# Altium schematic symbol library полётный контроллер 1.SchLib: 28 symbols
Pins are listed as number, name and electrical type; pins without a type are passive.

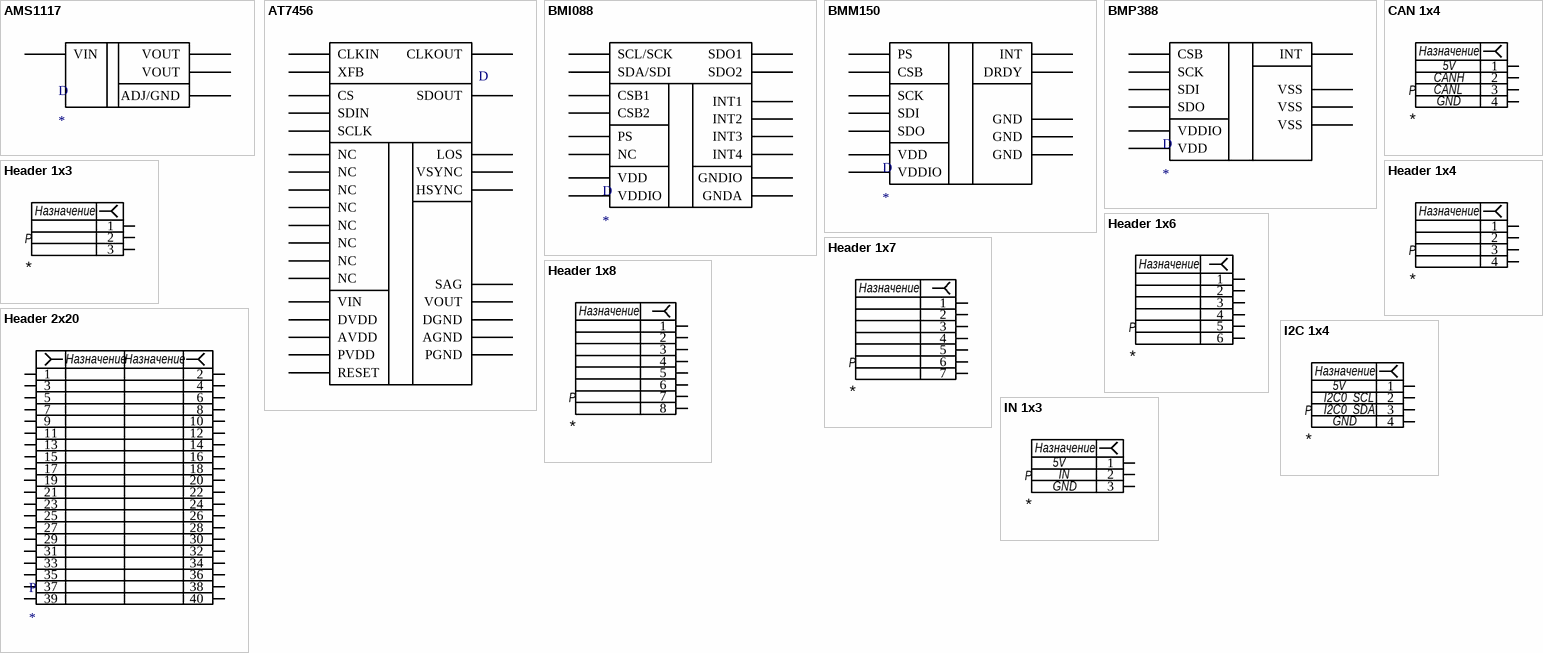
[diagram p0: symbols AMS1117 to IN 1x3]

## AMS1117
designator D
pins: 1 ADJ/GND, 2 VOUT, 3 VIN, 4 VOUT

## AT7456
designator D  (value not drawn)
OSD
pins: 1 NC, 2 NC, 3 DVDD, 4 DGND, 5 CLKIN, 6 XFB, 7 CLKOUT, 8 CS, 9 SDIN, 10 SCLK, 11 SDOUT, 12 LOS, 13 NC, 14 NC, 15 NC, 16 NC, 17 VSYNC, 18 HSYNC, 19 RESET, 20 AGND, 21 AVDD, 22 VIN, 23 PGND, 24 PVDD, 25 SAG, 26 VOUT, 27 NC, 28 NC

## BMI088
designator D
pins: 1 INT2, 2 NC, 3 VDD (power), 4 GNDA (power), 5 CSB2, 6 GNDIO (power), 7 PS, 8 SCL/SCK, 9 SDA/SDI, 10 SDO2, 11 VDDIO (power), 12 INT3, 13 INT4, 14 CSB1, 15 SDO1, 16 INT1

## BMM150
designator D
pins: A1 PS, A3 SCK, A5 CSB, B2 VDDIO (power), B4 SDI, C1 SDO, C5 GND (power), D2 INT, D4 DRDY, E1 GND (power), E3 GND (power), E5 VDD (power)

## BMP388
designator D
pins: 1 VDDIO (power), 2 SCK, 3 VSS (power), 4 SDI, 5 SDO, 6 CSB, 7 INT, 8 VSS (power), 9 VSS (power), 10 VDD (power)

## CAN 1x4
designator P
pins: 1, 2, 3, 4
text: Назначение; 5V; CANH; CANL; GND

## Header 1x3
designator P
pins: 1, 2, 3
text: Назначение

## Header 1x4
designator P
pins: 1, 2, 3, 4
text: Назначение

## Header 1x6
designator P
pins: 1, 2, 3, 4, 5, 6
text: Назначение

## Header 1x7
designator P
pins: 1, 2, 3, 4, 5, 6, 7
text: Назначение

## Header 1x8
designator P
pins: 1, 2, 3, 4, 5, 6, 7, 8
text: Назначение

## Header 2x20
designator P
pins: 1, 2, 3, 4, 5, 6, 7, 8, 9, 10, 11, 12, 13, 14, 15, 16, 17, 18, 19, 20, 21, 22, 23, 24, 25, 26, 27, 28, 29, 30, 31, 32, 33, 34, 35, 36, 37, 38, 39, 40
text: Назначение

## I2C 1x4
designator P
pins: 1, 2, 3, 4
text: Назначение; 5V; I2C0_SCL; I2C0_SDA; GND

## IN 1x3
designator P
pins: 1, 2, 3
text: Назначение; 5V; IN; GND

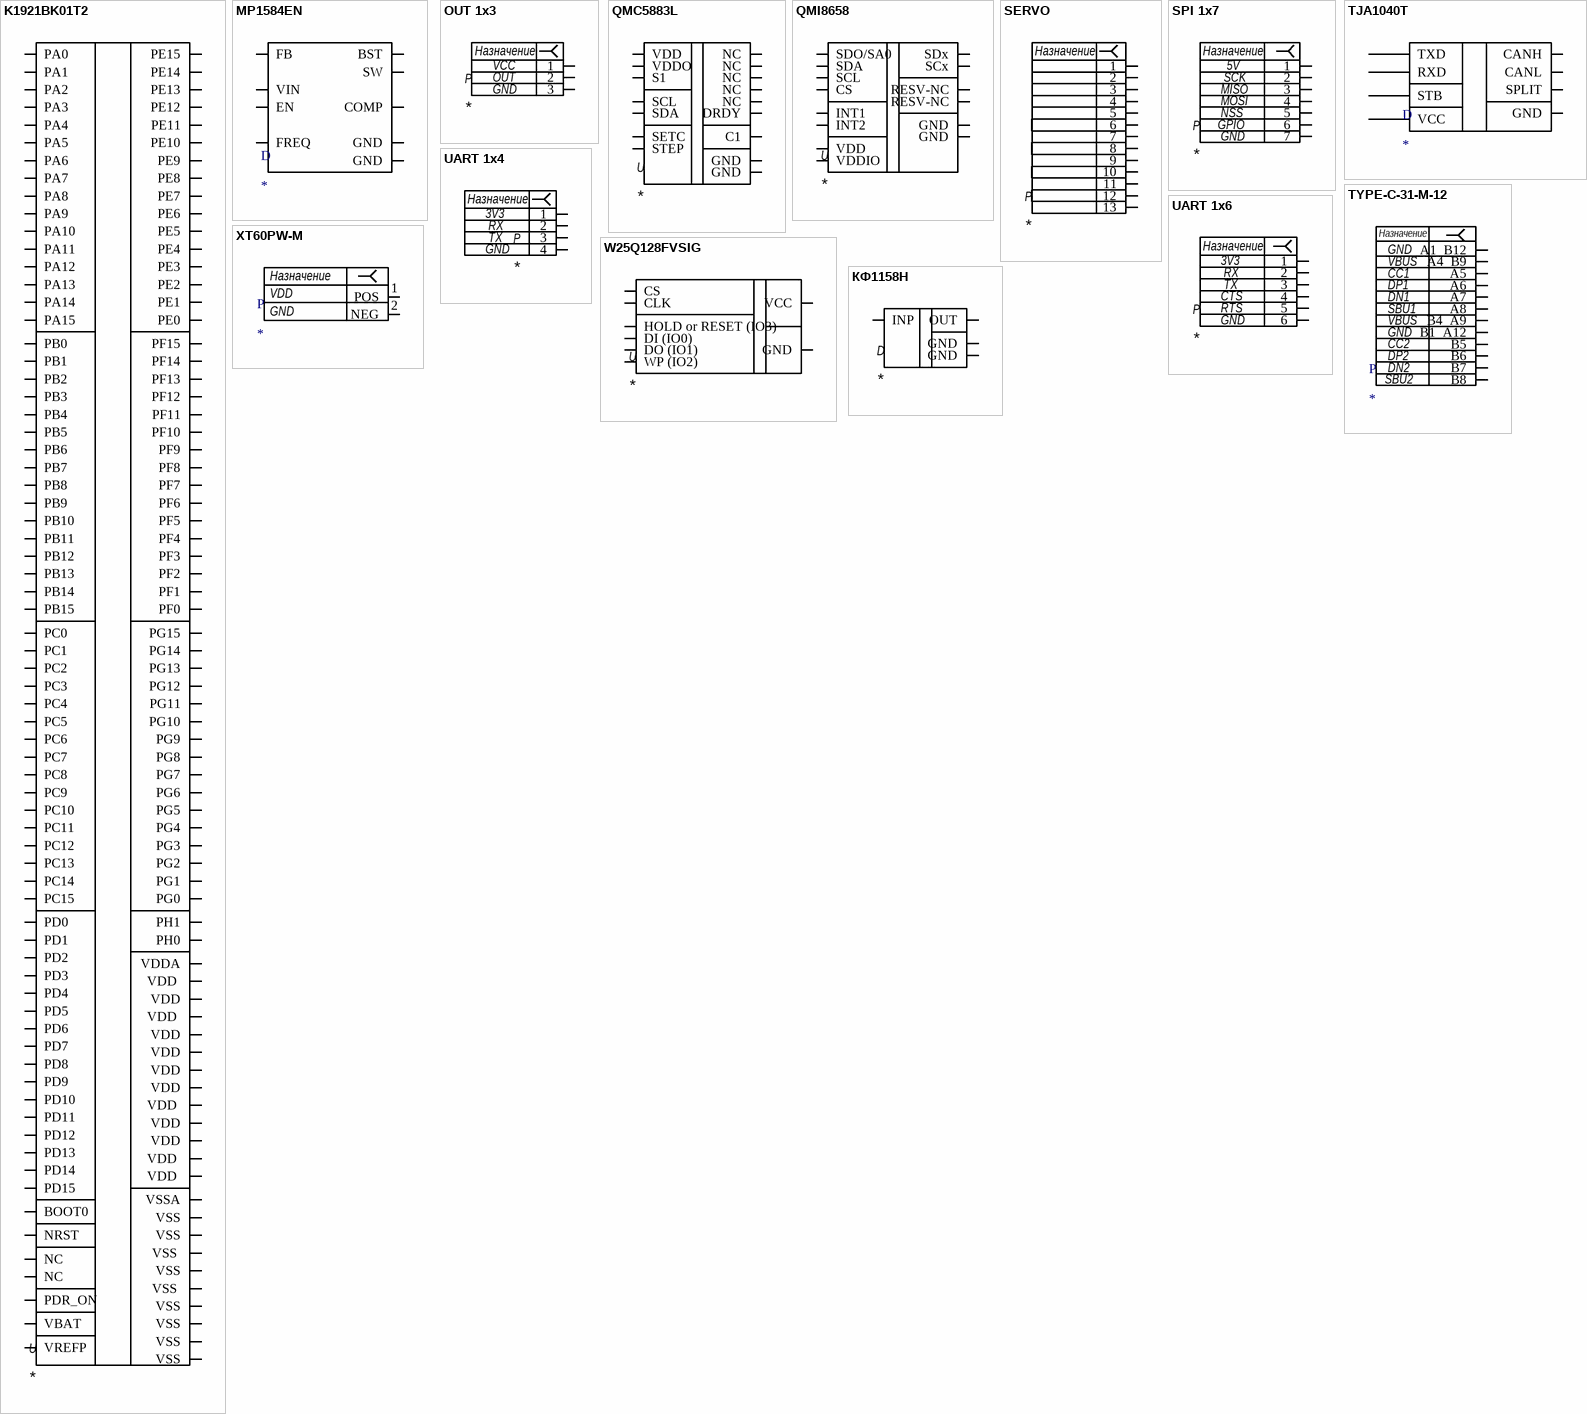
[diagram p1: symbols K1921BK01T2 to КФ1158Н]

## K1921BK01T2
designator U
pins: 1 PE2, 2 PE3, 3 PE4, 4 PE5, 5 PE6, 6 VBAT, 7 PC13, 8 PC14, 9 PC15, 10 PF0, 11 PF1, 12 PF2, 13 PF3, 14 PF4, 15 PF5, 16 VSS, 17 VDD , 18 PF6, 19 PF7, 20 PF8, 21 PF9, 22 PF10, 23 PH0, 24 PH1, 25 NRST, 26 PC0, 27 PC1, 28 PC2, 29 PC3, 30 VDD , 31 VSSA, 32 VREFP, 33 VDDA, 34 PA0, 35 PA1, 36 PA2, 37 PA3, 38 VSS, 39 VDD, 40 PA4, 41 PA5, 42 PA6, 43 PA7, 44 PC4, 45 PC5, 46 PB0, 47 PB1, 48 PB2, 49 PF11, 50 PF12, 51 VSS, 52 VDD, 53 PF13, 54 PF14, 55 PF15, 56 PG0, 57 PG1, 58 PE7, 59 PE8, 60 PE9, 61 VSS, 62 VDD , 63 PE10, 64 PE11, 65 PE12, 66 PE13, 67 PE14, 68 PE15, 69 PB10, 70 PB11, 71 NC , 72 VDD, 73 PB12, 74 PB13, 75 PB14, 76 PB15, 77 PD8, 78 PD9, 79 PD10, 80 PD11, 81 PD12, 82 PD13, 83 VSS , 84 VDD, 85 PD14, 86 PD15, 87 PG2, 88 PG3, 89 PG4, 90 PG5, 91 PG6, 92 PG7, 93 PG8, 94 VSS, 95 VDD, 96 PC6, 97 PC7, 98 PC8, 99 PC9, 100 PA8, 101 PA9, 102 PA10, 103 PA11, 104 PA12, 105 PA13, 106 NC, 107 VSS , 108 VDD, 109 PA14, 110 PA15, 111 PC10, 112 PC11, 113 PC12, 114 PD0, 115 PD1, 116 PD2, 117 PD3, 118 PD4, 119 PD5, 120 VSS, 121 VDD , 122 PD6, 123 PD7, 124 PG9, 125 PG10, 126 PG11, 127 PG12, 128 PG13, 129 PG14, 130 VSS, 131 VDD, 132 PG15, 133 PB3, 134 PB4, 135 PB5, 136 PB6, 137 PB7, 138 BOOT0, 139 PB8, 140 PB9, 141 PE0, 142 PE1, 143 PDR_ON, 144 VDD 

## MP1584EN
designator D
pins: 1 SW, 2 EN, 3 COMP, 4 FB, 5 GND, 6 FREQ, 7 VIN, 8 BST, 9 GND

## OUT 1x3
designator P
pins: 1, 2, 3
text: Назначение; VCC; OUT; GND

## QMC5883L
designator U
pins: 1 SCL, 2 VDD, 3 NC, 4 S1, 5 NC, 6 NC, 7 NC, 8 STEP, 9 GND, 10 C1, 11 GND, 12 SETC, 13 VDDO, 14 NC, 15 DRDY, 16 SDA

## QMI8658
designator U
pins: 1 SDO/SA0, 2 SDx, 3 SCx, 4 INT1, 5 VDDIO, 6 GND, 7 GND, 8 VDD, 9 INT2, 10 RESV-NC, 11 RESV-NC, 12 CS, 13 SCL, 14 SDA

## SERVO
designator P
pins: 1, 2, 3, 4, 5, 6, 7, 8, 9, 10, 11, 12, 13
text: Назначение

## SPI 1x7
designator P
pins: 1, 2, 3, 4, 5, 6, 7
text: Назначение; 5V; SCK; MISO; MOSI; NSS; GPIO; GND

## TJA1040T
designator D
pins: 1 TXD, 2 GND, 3 VCC (power), 4 RXD, 5 SPLIT, 6 CANL, 7 CANH, 8 STB

## TYPE-C-31-M-12
designator P
pins: A1_B12, A4_B9, A5, A6, A7, A8, B1_A12, B4_A9, B5, B6, B7, B8
text: Назначение; GND; VBUS; CC1; DP1; DN1; SBU1; CC2; DP2; DN2; SBU2

## UART 1x4
designator P
pins: 1, 2, 3, 4
text: Назначение; 3V3; RX; TX; GND

## UART 1x6
designator P
pins: 1, 2, 3, 4, 5, 6
text: Назначение; 3V3; RX; TX; CTS; RTS; GND

## W25Q128FVSIG
designator U
pins: 1 CS, 2 DO (IO1), 3 WP (IO2), 4 GND, 5 DI (IO0) , 6 CLK, 7 HOLD or RESET (IO3) , 8 VCC

## XT60PW-M
designator P
pins: 1 POS, 2 NEG
text: Назначение; VDD; GND

## КФ1158Н
designator D
pins: 1 INP, 2 GND, 3 OUT, 4 GND